# Altium footprint library ACTION_Component.PcbLib: 73 footprints (part 5 of 5)
Each footprint in its own frame and in the unit in brackets; x right, y up, seen from the top. Pads: shape width x height; smd on the part's side, far side on the other; paste and mask are expansions set on the pad; w line width, h text height; cw(c..) or ccw(c..) is an arc to the next point about the centre after c.
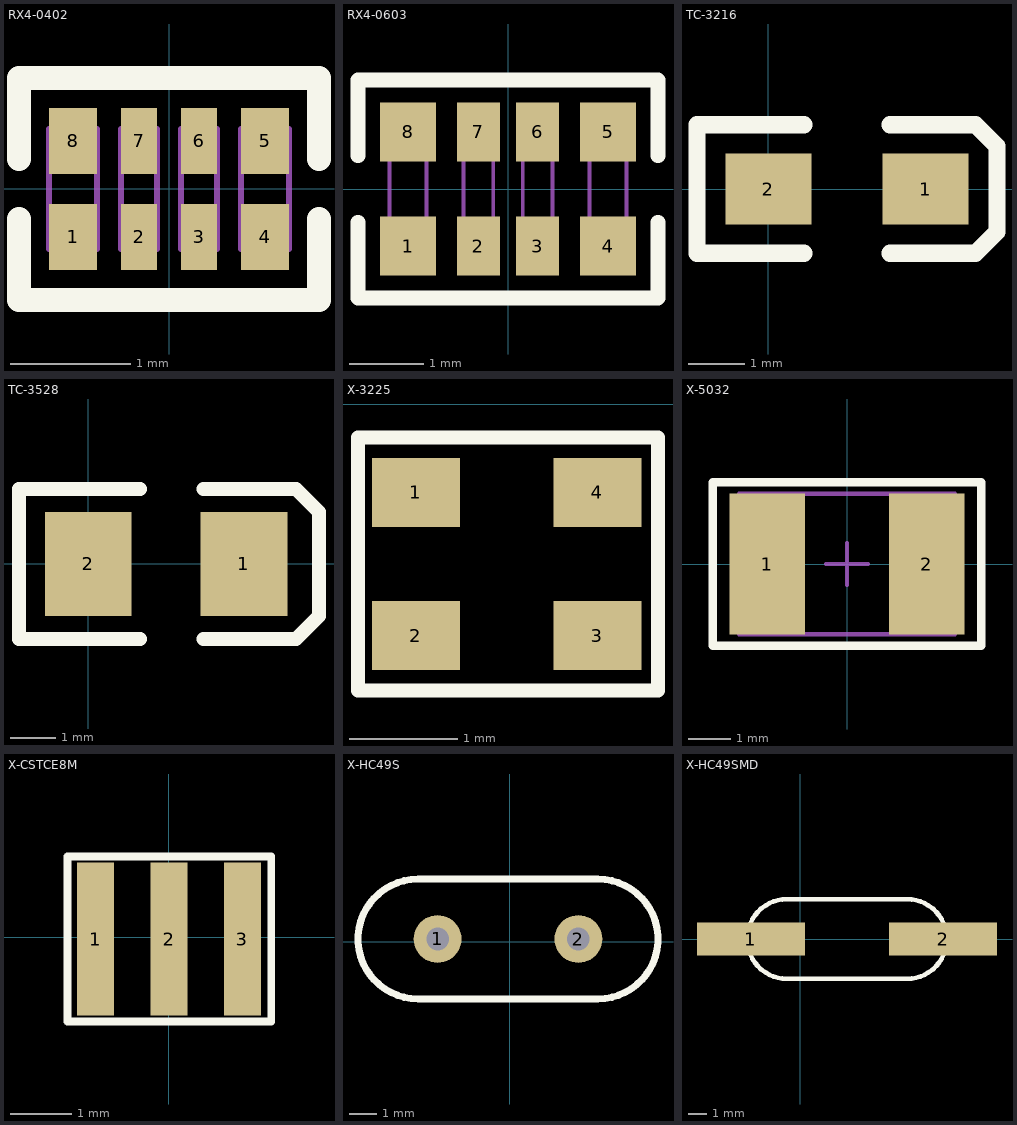
[diagram p4: the footprints below, top view; thin cyan lines are the x and y axes]

## RX4-0402 [mm]
pads (8):
  rect 0.4x0.55 smd mask+0.051: 1(-0.8,-0.4) 4(0.8,-0.4) 5(0.8,0.4) 8(-0.8,0.4)
  rect 0.3x0.55 smd mask+0.051: 2(-0.25,-0.4) 3(0.25,-0.4) 6(0.25,0.4) 7(-0.25,0.4)
Top Overlay:
  lines w0.2: -1.25,-0.25 -1.25,-0.925 1.25,-0.925 1.25,-0.25 ; -1.25,0.25 -1.25,0.925 1.25,0.925 1.25,0.25
Mechanical 13:
  lines w0.05: -1,-0.5 -0.6,-0.5 ; -1,-0.5 -1,0.5 -0.6,0.5 -0.6,-0.5 ; -1,-0.5 -0.6,-0.5 ; -0.4,-0.5 -0.1,-0.5 -0.1,0.5 -0.4,0.5 -0.4,-0.5 ; 0.1,-0.5 0.4,-0.5 0.4,0.5 0.1,0.5 0.1,-0.5 ; 0.6,-0.5 1,-0.5 1,0.5 0.6,0.5 0.6,-0.5
3D body "User Library-YC124-1.step": height 0.45, standoff 0, extent -1,-0.5 1,0.5

## RX4-0603 [mm]
pads (8):
  rect 0.75x0.8 smd mask+0.051: 1(-1.35,-0.77) 4(1.35,-0.77) 5(1.35,0.77) 8(-1.35,0.77)
  rect 0.58x0.8 smd mask+0.051: 2(-0.4,-0.77) 3(0.4,-0.77) 6(0.4,0.77) 7(-0.4,0.77)
Top Overlay:
  lines w0.2: -2.025,-0.45 -2.025,-1.47 2.025,-1.47 2.025,-0.45 ; -2.025,0.45 -2.025,1.47 2.025,1.47 2.025,0.45
Mechanical 13:
  lines w0.05: -1.6,-0.8 -1.6,0.8 -1.1,0.8 -1.1,-0.8 -1.6,-0.8 ; -0.6,-0.8 -0.6,0.8 -0.2,0.8 -0.2,-0.8 -0.6,-0.8 ; 0.2,-0.8 0.2,0.8 0.6,0.8 0.6,-0.8 0.2,-0.8 ; 1.1,-0.8 1.1,0.8 1.6,0.8 1.6,-0.8 1.1,-0.8
3D body "SW3dPS-RN164P.STEP": height 0.55, standoff 0, extent -1.6,-0.8 1.6,0.8

## TC-3216 [mil]
pads (2):
  rect 60x50 smd: 1(110,0) 2(0,0)
Top Overlay:
  lines w12: 25,-45 -50,-45 -50,45 25,45 ; 85,-45 145,-45 160,-30 160,30 145,45 85,45
3D body "STEC_A.step": height 63.39, standoff 0, extent -17.81,-33.5 107.81,29.5

## TC-3528 [mil]
pads (2):
  rect 75x90 smd: 1(135,0) 2(0,0)
Top Overlay:
  lines w12: 45,-65 -60,-65 -60,65 45,65 ; 100,-65 180,-65 200,-45 200,45 180,65 100,65
3D body "STEC_C.step": height 98.82, standoff 0, extent -53.99,-63.98 181.99,62

## X-3225 [mil]
pads (4):
  rect 32x25 smd: 1(43,-32) 2(43,-84) 3(109,-84) 4(109,-32)
Top Overlay:
  lines w5: 22,-104 131,-104 131,-12 22,-12 22,-104
3D body "晶振 (1).STEP": height 50, standoff 1.97, extent 22.13,-101.9 129,-14.1

## X-5032 [mm]
height 1.35
pads (2):
  rect 1.8x3.35 smd: 1(-1.9,0) 2(1.9,0)
Top Overlay:
  lines w0.2: -3.2,-1.95 3.2,-1.95 3.2,1.95 -3.2,1.95 -3.2,-1.95
Mechanical 13:
  lines w0.1: -2.575,-1.675 2.575,-1.675 2.575,1.675 -2.575,1.675 -2.575,-1.675
Mechanical 15:
  lines w0.05: -3.2,-1.95 3.2,-1.95 3.2,1.95 -3.2,1.95 -3.2,-1.95
  lines w0.1: -0.5,0 0.5,0 ; 0,-0.5 0,0.5
3D body "User Library-ABM3-1.STEP": height 1.3, standoff 0, extent -2.5,-1.6 2.5,1.6

## X-CSTCE8M [mm]
pads (3):
  rect 0.6x2.5 smd: 1(-1.194,-0.025) 2(0.006,-0.025) 3(1.206,-0.025)
Top Overlay:
  lines w0.127: -1.651,-1.372 -1.651,1.321 1.676,1.321 1.676,-1.372 -1.651,-1.372
3D body: height 1, standoff 0, extent -1.6,-1.067 1.626,0.965

## X-HC49S [mil]
pads (2):
  round 68 hole 32: 1(-102.36,3.94) 2(97.64,3.94)
Top Overlay:
  lines w10: -130.36,-81.07 cw(c-130.36,3.94) -130.36,88.94 125.64,88.94 cw(c125.64,3.94) 125.64,-81.07 -130.36,-81.07
3D body "晶振.STEP": height 118.11, standoff -78.74, extent -235.22,-74.8 237.22,82.68

## X-HC49SMD [mil]
height 200
pads (2):
  rect 230x70 smd: 1(-105,0) 2(305,0)
Top Overlay:
  lines w10: -28,-85.01 cw(c-28,0) -28,85.01 228,85.01 cw(c228,0) 228,-85.01 -28,-85.01
3D body "晶振 (2).STEP": height 169.29, standoff 0, extent -150.97,-101.08 352.97,89.08